# EAGLE library part STP16CP05MTR (library jaycollett)
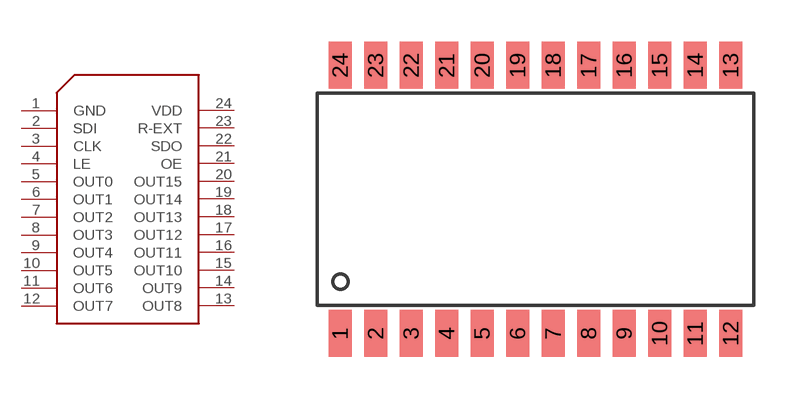
[diagram p0: symbol with the pads of SO-24; footprint SO-24]

Designator prefix -

## STP16CP05MTR  [SO-24]
1  GND
2  SDI
3  CLK
4  LE
5  OUT0
6  OUT1
7  OUT2
8  OUT3
9  OUT4
10  OUT5
11  OUT6
12  OUT7
13  OUT8
14  OUT9
15  OUT10
16  OUT11
17  OUT12
18  OUT13
19  OUT14
20  OUT15
21  OE
22  SDO
23  R-EXT
24  VDD

## Footprint SO-24 (pad centres in mm)
smd 0.813 x 1.676: 1 -6.985,-4.8; 2 -5.715,-4.8; 3 -4.445,-4.8; 4 -3.175,-4.8; 5 -1.905,-4.8; 6 -0.635,-4.8; 7 0.635,-4.8; 8 1.905,-4.8; 9 3.175,-4.8; 10 4.445,-4.8; 11 5.715,-4.8; 12 6.985,-4.8; 13 6.985,4.8; 14 5.715,4.8; 15 4.445,4.8; 16 3.175,4.8; 17 1.905,4.8; 18 0.635,4.8; 19 -0.635,4.8; 20 -1.905,4.8; 21 -3.175,4.8; 22 -4.445,4.8; 23 -5.715,4.8; 24 -6.985,4.8